# Altium schematic symbol library AltiumDesigner.SchLib: 2 symbols
Pins are listed as number, name and electrical type; pins without a type are passive.

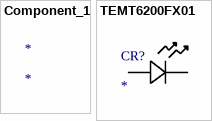
[diagram p0: symbols Component_1 to TEMT6200FX01]

## Component_1
designator *

## TEMT6200FX01
designator CR?
Imported; Manufacturer_Part_Number: TEMT6200FX01; Vendor: Vishay; Supersection: Unknown; C: Copyright (C) 2015 Accelerated Designs. All rights reserved; Section: Unknown; Family: Unknown; Manufacturer_Name: Vishay; Copyright: Copyright (C) 2015 Accelerated Designs. All rights reserved; RS_Part_Number: 7103853; Value: Value
footprint TEM_0805
pins: 1, 2